# Altium schematic symbol library Diode.SchLib: 81 symbols
Pins are listed as number, name and electrical type; pins without a type are passive.

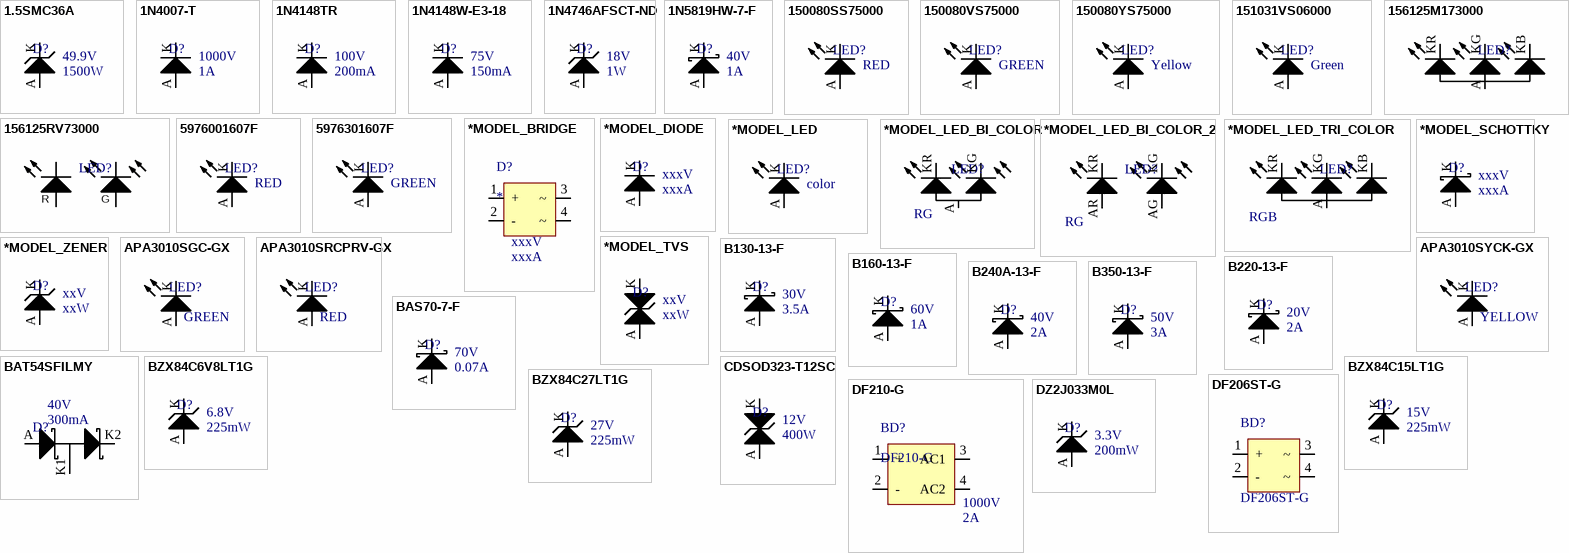
[diagram p0: symbols 1.5SMC36A to DZ2J033M0L]

## 1.5SMC36A
designator D?  value 49.9V  Power: 1500W  (hidden comment: 1.5SMC36A)
TVS DIODE 30.8VWM 49.9VC DO214AB; Manufacturer: Bourns Inc.; Mount Type: SMD; Category: TVS; Supplier 1: Digi-Key; Supplier Part Number 1: 1.5SMC36ABBCT-ND
footprint DO-214AB SMC
pins: A, K

## 1N4007-T
designator D?  value 1A  Voltage: 1000V  (hidden comment: 1N4007-T)
DIODE GEN PURP 1KV 1A DO41; Manufacturer: Diodes Incorporated; Mount Type: PTH; Category: Rectifier; Supplier 1: Farnell; Supplier 2: Digi-Key; Supplier 3: Mouser; Supplier 4: Newark; Supplier Part Number 1: 1843698; Supplier Part Number 2: 1N4007DICT-ND; Supplier Part Number 3: 750-1N4007T-G; Supplier Part Number 4: 12T2304
footprint DO-204AL
pins: A, K

## 1N4148TR
designator D?  value 200mA  Voltage: 100V  (hidden comment: 1N4148TR)
DIODE GEN PURP 100V 200MA DO35; Manufacturer: Fairchild Semiconductor; Mount Type: PTH; Category: Rectifier; Supplier 1: Farnell; Supplier 2: Newark; Supplier 3: Mouser; Supplier 4: Digi-Key; Supplier Part Number 1: 1782479; Supplier Part Number 2: 83C2425; Supplier Part Number 3: 512-1N4148; Supplier Part Number 4: 1N4148VSCT-ND
footprint DO-204AL
pins: A, K

## 1N4148W-E3-18
designator D?  value 150mA  Voltage: 75V  (hidden comment: 1N4148W-E3-18)
DIODE GEN PURP 75V 150MA SOD123; Manufacturer: Vishay Semiconductor Diodes Division; Mount Type: SMD; Category: Rectifier; Supplier 1: Newark; Supplier 2: Digi-Key; Supplier 3: Mouser; Supplier 4: Farnell; Supplier Part Number 1: 43X2686; Supplier Part Number 2: 1N4148W-E3-18CT-ND; Supplier Part Number 3: 78-1N4148W-E3-08; Supplier Part Number 4: 2377282
footprint SOD-123
pins: A, K

## 1N4746AFSCT-ND
designator D?  value 18V  Power: 1W  (hidden comment: 1N4746AFSCT-ND)
DIODE ZENER 18V 1W DO41; Manufacturer: Fairchild Semiconductor; Mount Type: PTH; Category: Zener; Supplier 1: Digi-Key; Supplier 2: Mouser; Supplier 3: Farnell; Supplier Part Number 1: 1N4746AFSCT-ND; Supplier Part Number 2: 512-1N4746ATR; Supplier Part Number 3: 2453733
footprint DO-204AL - ZENER
pins: A, K

## 1N5819HW-7-F
designator D?  value 1A  Voltage: 40V  (hidden comment: 1N5819HW-7-F)
DIODE SCHOTTKY 40V 1A SOD123; Manufacturer: Diodes Incorporated; Mount Type: SMD; Category: Schottky; Supplier 1: Digi-Key; Supplier 2: Mouser; Supplier 3: Farnell; Supplier 4: Newark; Supplier Part Number 1: 1N5819HW-FDICT-ND; Supplier Part Number 2: 621-1N5819HW-F; Supplier Part Number 3: 1773475; Supplier Part Number 4: 51R7874
footprint SOD-123
pins: A, K

## 150080SS75000
designator LED?  value RED  (hidden comment: 150080SS75000)
LED RED CLEAR 0805 SMD; Manufacturer: Wurth Electronics Inc.; Voltage: 1.9V; Mount Type: SMD; Supplier 1: Farnell; Supplier Part Number 1: 2322078; Supplier 2: Digi-Key; Supplier Part Number 2: 732-4985-6-ND
footprint L0805 RED (LED RED CLEAR 0805 SMD)
pins: A, K

## 150080VS75000
designator LED?  value GREEN  (hidden comment: 150080VS75000)
LED GREEN CLEAR 0805 SMD; Manufacturer: Wurth Electronics Inc.; Voltage: 2V; Mount Type: SMD; Supplier 1: Digi-Key; Supplier Part Number 1: 732-4986-1-ND; Supplier 2: Farnell; Supplier Part Number 2: 2322081
footprint L0805 GREEN
pins: A, K

## 150080YS75000
designator LED?  value Yellow  (hidden comment: 150080YS75000)
LED YELLOW CLEAR 0805 SMD; Manufacturer: Wurth Electronics Inc.; Voltage: 2V; Mount Type: SMD; Supplier 1: Newark; Supplier Part Number 1: 95W3804; Supplier 2: Digi-Key; Supplier Part Number 2: 732-4987-2-ND; Supplier 3: Farnell; Supplier Part Number 3: 2322082; Supplier 4: Digi-Key; Supplier Part Number 4: 732-4987-1-ND; Supplier 5: Digi-Key; Supplier Part Number 5: 732-4987-6-ND
footprint L0805 YELLOW
pins: A, K

## 151031VS06000
designator LED?  value Green  (hidden comment: 151031VS06000)
LED GRN DIFF 3MM ROUND T/H; Manufacturer: Wurth Electronics Inc.; Voltage: 2.2V; Mount Type: Through Hole; Supplier 1: Newark; Supplier Part Number 1: 95W3825; Supplier 2: Farnell; Supplier Part Number 2: 2322130; Supplier 3: Digi-Key; Supplier Part Number 3: 732-5008-ND
footprint 151031VS06000
pins: A, K

## 156125M173000
designator LED?  (value not drawn)
LED RGB CLEAR SMD; Manufacturer: Wurth Electronics Inc.; Voltage: 2V/3.3V/3.3V; Mount Type: SMD; Value: RGB; Supplier 1: Farnell; Supplier Part Number 1: 2765007; Supplier 2: Digi-Key; Supplier Part Number 2: 732-11426-1-ND; Supplier 3: Newark; Supplier Part Number 3: 22AC3296
footprint L1206 RGB ROUND REVERSE
pins: A, KB, KG, KR

## 156125RV73000
designator LED?  (value not drawn)
Description; Manufacturer: Wurth Electronics Inc.; Voltage: 2.1V/2V; Value: RG; Mount Type: SMD; Supplier 1: Newark; Supplier Part Number 1: 22AC3299; Supplier 2: Farnell; Supplier Part Number 2: 2765010; Supplier 3: Digi-Key; Supplier Part Number 3: 732-11429-1-ND
footprint L1206 BICOLOR ROUND
pins: 1 KG, 2 KR, 3 AR, 4 AG
text: R; G

## 5976001607F
designator LED?  value RED  (hidden comment: 5976001607F)
LED RED CLEAR 1206 SMD; Manufacturer: Dialight; Voltage: 2V; Mount Type: SMD; Supplier 1: Newark; Supplier Part Number 1: 06P3488; Supplier 2: Digi-Key; Supplier Part Number 2: 350-2312-1-ND; Supplier 3: Farnell; Supplier Part Number 3: 1760712
footprint L1206 RED ROUND REVERSE
pins: A, K

## 5976301607F
designator LED?  value GREEN  (hidden comment: 5976301607F)
LED GREEN CLEAR 1206 SMD; Manufacturer: Dialight; Voltage: 3.3V; Mount Type: SMD; Supplier 1: Digi-Key; Supplier Part Number 1: 350-2310-1-ND; Supplier 2: Arrow; Supplier Part Number 2: jDo53zdUazVR209LoJPoSj7ff4RV9Nr14zgbARHC_hE; Supplier 3: Newark; Supplier Part Number 3: 06P3497
footprint L1206 GREEN ROUND REVERSE
pins: A, K

## *MODEL_BRIDGE
designator D?  value xxxA  Voltage: xxxV
Description; Category: *; Manufacturer: *; Mount Type: *
pins: 1 + , 2 -, 3 ~, 4 ~

## *MODEL_DIODE
designator D?, comment value xxxA  Voltage: xxxV  (hidden comment: Part Number)
Description; Mount Type: *; Manufacturer: *; Category: Rectifier
pins: A, K

## *MODEL_LED
designator LED?, comment value color  (hidden comment: Part Number)
Description; Voltage: xxV; Mount Type: *; Manufacturer: *; Category: LED
pins: A, K

## *MODEL_LED_BI_COLOR
designator LED?, comment value RG  (hidden comment: Part Number)
Description; Voltage: xxV/yyV; Mount Type: *; Manufacturer: *; Category: LED
pins: A, KG, KR

## *MODEL_LED_BI_COLOR_2
designator LED?, comment value RG  (hidden comment: Part Number)
Description; Voltage: xxV/yyV; Mount Type: *; Manufacturer: *; Category: LED
pins: AG, AR, KG, KR

## *MODEL_LED_TRI_COLOR
designator LED?, comment value RGB  (hidden comment: Part Number)
Description; Voltage: xxV/yyV/zzV; Mount Type: *; Manufacturer: *; Category: LED
pins: A, KB, KG, KR

## *MODEL_SCHOTTKY
designator D?, comment value xxxA  Voltage: xxxV  (hidden comment: Part Number)
Description; Mount Type: *; Manufacturer: *; Category: Schottky
pins: A, K

## *MODEL_TVS
designator D?, comment value xxV  Power: xxW  (hidden comment: Part Number)
Description; Mount Type: *; Manufacturer: *; Category: TVS
pins: A, K

## *MODEL_ZENER
designator D?, comment value xxV  Power: xxW  (hidden comment: Part Number)
Description; Mount Type: *; Manufacturer: *; Category: Zener
pins: A, K

## APA3010SGC-GX
designator LED?  value GREEN  (hidden comment: APA3010SGC-GX)
Green 568nm LED Indication Discrete 2.2V Clear Lens 2-SMD, No Lead; Manufacturer: Kingbright; Mount Type: SMD; Voltage: 2.2V; Supplier 1: Digi-Key; Supplier 2: Newark; Supplier Part Number 1: 754-1586-1-ND; Supplier Part Number 2: 92F3652
footprint L3010 GREEN
pins: A, K

## APA3010SRCPRV-GX
designator LED?  value RED  (hidden comment: APA3010SRCPRV-GX)
Red 640nm LED Indication Discrete 1.85V Clear Lens 2-SMD, No Lead; Manufacturer: Kingbright; Mount Type: SMD; Voltage: 1.85V; Supplier 1: Digi-Key; Supplier 2: Newark; Supplier Part Number 1: 754-1577-1-ND; Supplier Part Number 2: 93K6500
footprint L3010 RED
pins: A, K

## APA3010SYCK-GX
designator LED?  value YELLOW  (hidden comment: APA3010SYCK-GX)
Yellow 590nm LED Indication Discrete 2V Clear Lens 2-SMD, No Lead; Manufacturer: Kingbright; Mount Type: SMD; Voltage: 2V; Supplier 1: Digi-Key; Supplier 2: Farnell; Supplier Part Number 1: 754-1585-1-ND; Supplier Part Number 2: 3229579
footprint L3010 YELLOW
pins: A, K

## B130-13-F
designator D?  value 3.5A  Voltage: 30V  (hidden comment: B130-13-F)
DIODE SCHOTTKY 30V 1A SMA; Manufacturer: Diodes Inc.; Mount Type: SMD; Category: Schottky; Supplier 1: Digi-Key; Supplier 2: Mouser; Supplier 3: Arrow; Supplier 4: Farnell; Supplier Part Number 1: B130-FDICT-ND; Supplier Part Number 2: 621-B130-F; Supplier Part Number 3: 41507697S7459205N2867; Supplier Part Number 4: 1843713
footprint DO-214AC SMA (DO-214-AC/SMA; 2 C-Bend Leads; Body 5.3 x 2.6 mm, inc. leads (LxW))
pins: A, K

## B160-13-F
designator D?  value 1A  Voltage: 60V  (hidden comment: B160-13-F)
DIODE SCHOTTKY 60V 1A SMA; Manufacturer: Diodes Incorporated; Mount Type: SMD; Category: Schottky; Supplier 1: Avnet; Supplier Part Number 1: B160-13-F/BKN; Supplier 2: Farnell; Supplier Part Number 2: 1843674RL; Supplier 3: Digi-Key; Supplier Part Number 3: B160-FDICT-ND; Supplier 4: Newark; Supplier Part Number 4: 12T1455
footprint DO-214AC SMA (DO-214-AC/SMA; 2 C-Bend Leads; Body 5.3 x 2.6 mm, inc. leads (LxW))
pins: A, K

## B220-13-F
designator D?  value 2A  Voltage: 20V  (hidden comment: B220-13-F)
DIODE SCHOTTKY 20V 2A SMB; Manufacturer: Diodes Incorporated; Mount Type: SMD; Category: Schottky; Supplier 1: Farnell; Supplier Part Number 1: 1843749; Supplier 2: Digi-Key; Supplier Part Number 2: B220-FDICT-ND; Supplier 3: Mouser; Supplier Part Number 3: 621-B220-F
footprint DO-214AA SMB
pins: A, K

## B240A-13-F
designator D?  value 2A  Voltage: 40V  (hidden comment: B240A-13-F)
DIODE SCHOTTKY 40V 2A SMA; Manufacturer: Diodes Incorporated; Mount Type: SMD; Category: Schottky; Supplier 1: Newark; Supplier 2: Digi-Key; Supplier 3: Farnell; Supplier 4: Mouser; Supplier Part Number 1: 12T1461; Supplier Part Number 2: B240A-FDICT-ND; Supplier Part Number 3: 1843669; Supplier Part Number 4: 621-B240A-F
footprint DO-214AC SMA (DO-214-AC/SMA; 2 C-Bend Leads; Body 5.3 x 2.6 mm, inc. leads (LxW))
pins: A, K

## B350-13-F
designator D?  value 3A  Voltage: 50V  (hidden comment: B350-13-F)
DIODE SCHOTTKY 50V 3A SMC; Manufacturer: Diodes Incorporated; Mount Type: SMD; Category: Schottky; Supplier 1: Avnet; Supplier Part Number 1: B350-13-F/BKN; Supplier 2: Digi-Key; Supplier Part Number 2: B350-FDICT-ND
footprint DO-214AB SMC
pins: A, K

## BAS70-7-F
designator D?  value 0.07A  Voltage: 70V  (hidden comment: BAS70-7-F)
DIODE SCHOTTKY 70V 0.07A SOT23-3; Manufacturer: Diodes Inc; Mount Type: SMD; Category: Schottky; Supplier 1: Farnell; Supplier 2: Mouser; Supplier 3: Digi-Key; Supplier 4: Newark; Supplier Part Number 1: 1902410; Supplier Part Number 2: 621-BAS70-F; Supplier Part Number 3: BAS70-FDICT-ND; Supplier Part Number 4: 65W8451
footprint SOT-23; pin to pad A>1 K>3
pins: A, K

## BAT54SFILMY
designator D?  value 300mA  Voltage: 40V  (hidden comment: BAT54SFILMY)
DIODE SCHOTTKY 40V 300MA SOT23; Manufacturer: STMicroelectronics; Mount Type: SMD; Category: Schottky; Supplier 1: Mouser; Supplier 2: Digi-Key; Supplier Part Number 1: 511-BAT54SFILMY; Supplier Part Number 2: 497-12132-1-ND
footprint SOT-23; pin to pad A>1 K1>3 K2>2
pins: A, K1, K2

## BZX84C6V8LT1G
designator D?  value 6.8V  Power: 225mW  (hidden comment: BZX84C6V8LT1G)
DIODE ZENER 6.8V 225MW SOT23-3; Manufacturer: ON Semiconductor; Mount Type: SMD; Category: Zener; Supplier 1: Digi-Key; Supplier Part Number 1: BZX84C6V8LT1GOSCT-ND
footprint SOT-23; pin to pad A>1 K>3
pins: A, K

## BZX84C15LT1G
designator D?  value 15V  Power: 225mW  (hidden comment: BZX84C15LT1G)
DIODE ZENER 15V 225MW SOT23-3; Manufacturer: ON Semiconductor; Mount Type: SMD; Category: Zener; Supplier 1: Digi-Key; Supplier Part Number 1: BZX84C15LT1GOSCT-ND
footprint SOT-23; pin to pad A>1 K>3
pins: A, K

## BZX84C27LT1G
designator D?  value 27V  Power: 225mW  (hidden comment: BZX84C27LT1G)
DIODE ZENER 27V 225MW SOT23-3; Manufacturer: ON Semiconductor; Mount Type: SMD; Category: Zener; Supplier 1: Digi-Key; Supplier Part Number 1: BZX84C27LT1GOSCT-ND
footprint SOT-23; pin to pad A>1 K>3
pins: A, K

## CDSOD323-T12SC
designator D?  value 12V  Power: 400W  (hidden comment: CDSOD323-T12SC)
TVS DIODE 12VWM 29.5VC SOD323; Manufacturer: Bourns Inc.; Mount Type: SMD; Category: TVS; Supplier 1: Newark; Supplier Part Number 1: 05R6894; Supplier 2: Avnet; Supplier Part Number 2: CDSOD323-T12SC; Supplier 3: Digi-Key; Supplier Part Number 3: CDSOD323-T12SCCT-ND; Supplier 4: Farnell; Supplier Part Number 4: 1824865
footprint SOD-323F
simulation model CDSOD323-T12SC (Model Description)
pins: A, K

## DF206ST-G
designator BD?
BRIDGE RECTIFIER 600V 2A DFS; Manufacturer: Comchip Technology; Value: 3A; Voltage: 1000V; Category: Rectifier; Mount Type: SMD; Supplier 1: Mouser; Supplier 2: Newark; Supplier 3: Digi-Key; Supplier Part Number 1: *; Supplier Part Number 2: *; Supplier 4: Digi-Key; Supplier Part Number 4: 641-1425-2-ND; Supplier Part Number 3: DF206ST-G
footprint Bridge_SMD_1
pins: 1 + , 2 -, 3 ~, 4 ~

## DF210-G
designator BD?  value 2A  Voltage: 1000V
RECT BRIDGE GPP 1000V 2A DF; Manufacturer: Comchip Technology; Category: Rectifier; Mount Type: PTH; Supplier 1: Mouser; Supplier 2: Digi-Key; Supplier Part Number 1: 750-DF210-G; Supplier Part Number 2: 641-1343-5-ND
footprint Bridge_PTH_1 (DIP, 8-Pin, Row Spacing 7.62 mm, Pitch 2.54 mm)
pins: 1 + , 2 -, 3 AC1, 4 AC2

## DZ2J033M0L
designator D?  value 3.3V  Power: 200mW  (hidden comment: DZ2J033M0L)
DIODE ZENER 3.3V 200MW SMINI2; Manufacturer: Panasonic Electronic Components; Mount Type: SMD; Category: Zener; Supplier 1: Mouser; Supplier Part Number 1: 667-DZ2J033M0L; Supplier 2: Newark; Supplier Part Number 2: 56W3769; Supplier 3: Digi-Key; Supplier Part Number 3: DZ2J033M0LCT-ND; Supplier 4: Farnell; Supplier Part Number 4: 2285293
footprint SOD-323F
pins: A, K

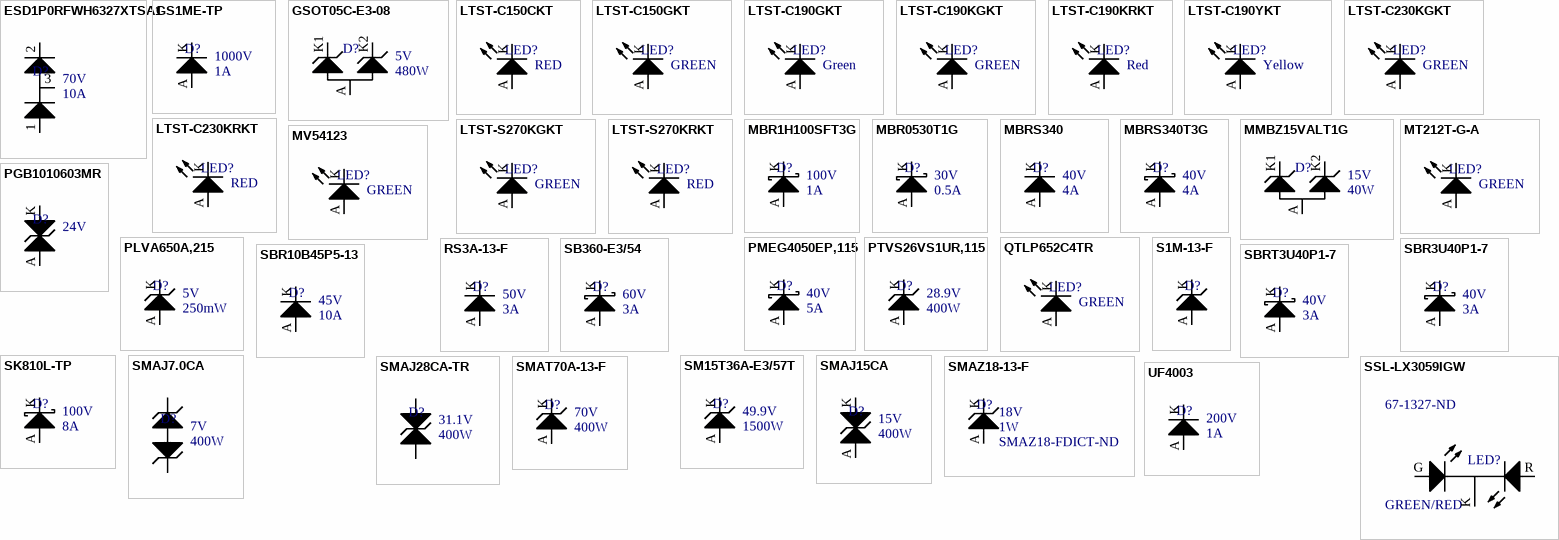
[diagram p1: symbols ESD1P0RFWH6327XTSA1 to UF4003]

## ESD1P0RFWH6327XTSA1
designator D?  value 10A  Voltage: 70V  (hidden comment: ESD1P0RFWH6327XTSA1)
TVS DIODE 70VWM 15VC SOT323; Manufacturer: Infineon Technologies; Mount Type: SMD; Category: Steering (Rail to Rail); Supplier 1: Avnet; Supplier Part Number 1: ESD1P0RFWH6327XTSA1; Supplier 2: Digi-Key; Supplier Part Number 2: ESD1P0RFWH6327XTSA1CT-ND
footprint SC-70-3 - SOT323
pins: 1 A, 2 K, 3 K

## GS1ME-TP
designator D?  value 1A  Voltage: 1000V  (hidden comment: GS1ME-TP)
DIODE GEN PURP 1KV 1A DO214AC; Manufacturer: Micro Commercial Co; Mount Type: SMD; Category: Rectifier; Supplier 1: Digi-Key; Supplier Part Number 1: GS1ME-TPMSCT-ND
footprint DO-214AC SMA (DO-214-AC/SMA; 2 C-Bend Leads; Body 5.3 x 2.6 mm, inc. leads (LxW))
pins: A, K

## GSOT05C-E3-08
designator D?  value 5V  Power: 480W  (hidden comment: GSOT05C-E3-08)
DIODE ESD 2LINE 5V SOT23; Manufacturer: Vishay Semiconductor Diodes Division; Mount Type: SMD; Category: Zener; Supplier 1: Digi-Key; Supplier 2: Mouser; Supplier Part Number 1: GSOT05C-E3-08CT-ND; Supplier Part Number 2: 78-GSOT05C-E3-08
footprint SOT-23; pin to pad A>3 K1>1 K2>2
pins: A, K1, K2

## LTST-C150CKT
designator LED?  value RED  (hidden comment: LTST-C150CKT)
LED RED CLEAR 1206 SMD; Manufacturer: Lite-On Inc; Voltage: 1.8V; Mount Type: SMD; Supplier 1: Mouser; Supplier 2: Newark; Supplier 3: Digi-Key; Supplier Part Number 1: 859-LTST-C150CKT; Supplier Part Number 2: 09J9557; Supplier Part Number 3: 160-1167-1-ND
footprint L1206 RED
pins: A, K

## LTST-C150GKT
designator LED?  value GREEN  (hidden comment: LTST-C150GKT)
LED GREEN CLEAR 1206 SMD; Manufacturer: Lite-On Inc; Voltage: 2.1V; Mount Type: SMD; Supplier 1: Mouser; Supplier 2: Newark; Supplier 3: Digi-Key; Supplier Part Number 1: 859-LTST-C150GKT; Supplier Part Number 2: 40K0120; Supplier Part Number 3: 160-1169-1-ND
footprint L1206 GREEN
pins: A, K

## LTST-C190GKT
designator LED?  value Green  (hidden comment: LTST-C190GKT)
LED GREEN CLEAR 0603 SMD; Manufacturer: Lite-On Inc.; Voltage: 2.1V; Mount Type: SMD; Category: LED
footprint L0603 GREEN (LED GREEN CLEAR 0603 SMD)
pins: A, K

## LTST-C190KGKT
designator LED?  value GREEN  (hidden comment: LTST-C190KGKT)
LED GREEN CLEAR 0603 SMD; Manufacturer: Lite-On Inc.; Voltage: 2V; Mount Type: SMD; Supplier 1: Digikey; Supplier Part Number 1: 160-1183-1-ND; Supplier 2: Mouser; Supplier Part Number 2: 859-LTST-C190GKT; Supplier 3: Arrow; Supplier Part Number 3: LTST-C190GKT**MULT1
footprint L0603 GREEN (LED GREEN CLEAR 0603 SMD)
pins: A, K

## LTST-C190KRKT
designator LED?  value Red  (hidden comment: LTST-C190KRKT)
LED RED CLEAR 0603 SMD; Manufacturer: Lite-On Inc.; Voltage: 2V; Mount Type: SMD; Category: LED
footprint L0603 RED (LED RED CLEAR 0603 SMD)
pins: A, K

## LTST-C190YKT
designator LED?  value Yellow  (hidden comment: LTST-C190YKT)
LED YELLOW CLEAR CHIP SMD; Manufacturer: Lite-On Inc.; Voltage: 2.1V; Mount Type: SMD; Category: LED
footprint L0603 YELLOW (LED YELLOW CLEAR 0603 SMD)
pins: A, K

## LTST-C230KGKT
designator LED?  value GREEN  (hidden comment: LTST-C230KGKT)
LED GREEN CLEAR 1206 REV MT SMD; Manufacturer: Lite-On Inc; Voltage: 2V; Mount Type: SMD; Supplier 1: Mouser; Supplier 2: Newark; Supplier 3: Digi-Key; Supplier Part Number 1: 859-LTST-C230KGKT; Supplier Part Number 2: 45K1224; Supplier Part Number 3: 160-1456-1-ND
footprint L1206 GREEN REVERSE
pins: A, K

## LTST-C230KRKT
designator LED?  value RED  (hidden comment: LTST-C230KRKT)
LED SUPR RED CLR 1206 REV MT SMD; Manufacturer: Lite-On Inc; Voltage: 2V; Mount Type: SMD; Supplier 1: Digi-Key; Supplier 2: Mouser; Supplier 3: Newark; Supplier Part Number 1: 160-1457-1-ND; Supplier Part Number 2: 859-LTST-C230KRKT; Supplier Part Number 3: 58K2307
footprint L1206 RED REVERSE
pins: A, K

## LTST-S270KGKT
designator LED?  value GREEN  (hidden comment: LTST-S270KGKT)
LED GREEN CLEAR 0603 R/A SMD; Manufacturer: Lite-On Inc.; Voltage: 2V; Mount Type: SMD; Supplier 1: Digi-Key; Supplier Part Number 1: 160-1478-1-ND; Supplier 2: Arrow; Supplier Part Number 2: DakXefaYPCDIGEkrktmyNISA3TtKifpK_A6EZjERB9U
footprint L0603 R/A GREEN (LED GREEN CLEAR 0603 R/A SMD)
pins: A, K

## LTST-S270KRKT
designator LED?  value RED  (hidden comment: LTST-S270KRKT)
LED RED CLEAR 0603 R/A SMD; Manufacturer: Lite-On Inc.; Voltage: 2V; Mount Type: SMD; Supplier 1: Arrow; Supplier Part Number 1: DakXefaYPCDIGEkrktmyNKdb-uTdGSwSvtvKEcv4UrY; Supplier 2: Digi-Key; Supplier Part Number 2: 160-1479-1-ND
footprint L0603 R/A RED (LED RED CLEAR 0603 R/A SMD)
pins: A, K

## MBR1H100SFT3G
designator D?  value 1A  Voltage: 100V  (hidden comment: MBR1H100SFT3G)
DIODE SCHOTTKY 100V 1A SOD123FL; Manufacturer: ON Semiconductor; Mount Type: SMD; Category: Schottky; Supplier 1: Farnell; Supplier Part Number 1: 2533229; Supplier 2: Digi-Key; Supplier Part Number 2: MBR1H100SFT3GOSCT-ND; Supplier 3: Newark; Supplier Part Number 3: 81Y6504; Supplier 4: Avnet; Supplier Part Number 4: MBR1H100SFT3G
footprint SOD-123W
pins: A, K

## MBR0530T1G
designator D?  value 0.5A  Voltage: 30V  (hidden comment: MBR0530T1G)
DIODE SCHOTTKY 30V 0.5A SOD123; Manufacturer: ON Semiconductor; Mount Type: SMD; Category: Schottky; Supplier 1: Digi-Key; Supplier 2: Newark; Supplier 3: Allied; Supplier 4: Mouser; Supplier 5: Farnell; Supplier Part Number 1: MBR0530T1GOSCT-ND; Supplier Part Number 2: 48K7499; Supplier Part Number 3: 70099496; Supplier Part Number 4: 863-MBR0530T1G; Supplier Part Number 5: 1431036
footprint SOD-123
pins: A, K

## MBRS340
designator D?  value 4A  Voltage: 40V  (hidden comment: MBRS340)
DIODE SCHOTTKY 40V 4A SMC; Manufacturer: Fairchild/ON Semiconductor; Mount Type: SMD; Category: Rectifier; Supplier 1: Digi-Key; Supplier Part Number 1: MBRS340FSCT-ND; Supplier 2: Farnell; Supplier Part Number 2: 9557377
footprint DO-214AB SMC
pins: A, K

## MBRS340T3G
designator D?  value 4A  Voltage: 40V  (hidden comment: MBRS340T3G)
DIODE SCHOTTKY 40V 4A SMC; Manufacturer: ON Semiconductor; Mount Type: SMD; Category: Schottky; Supplier 1: Mouser; Supplier 2: Allied; Supplier 3: Digi-Key; Supplier 4: Newark; Supplier 5: Farnell; Supplier Part Number 1: 863-MBRS340T3G; Supplier Part Number 2: 70099509; Supplier Part Number 3: MBRS340T3GOSCT-ND; Supplier Part Number 4: 90R9191; Supplier Part Number 5: 4085175
footprint DO-214AB SMC
pins: A, K

## MMBZ15VALT1G
designator D?  value 15V  Power: 40W  (hidden comment: MMBZ15VALT1G)
TVS ZENER DUAL CA 40W 15V SOT23; Manufacturer: ON Semiconductor; Mount Type: SMD; Category: Zener; Supplier 1: Mouser; Supplier 2: Allied; Supplier 3: Digi-Key; Supplier 4: Newark; Supplier 5: Farnell; Supplier Part Number 1: 863-MMBZ15VALT1G; Supplier Part Number 2: R1107507; Supplier Part Number 3: MMBZ15VALT1GOSCT-ND; Supplier Part Number 4: 84R0112; Supplier Part Number 5: 1829193
footprint SOT-23; pin to pad A>3 K1>1 K2>2
pins: A, K1, K2

## MT212T-G-A
designator LED?  value GREEN  (hidden comment: MT212T-G-A)
LED GRN 572NM DIFF 2X4MM; Manufacturer: Marktech Optoelectronics; Voltage: 2.1V; Mount Type: PTH; Supplier 1: Digi-Key; Supplier Part Number 1: 1125-1185-ND
footprint RECTANGULAR LED 2x4MM
pins: A, K

## MV54123
designator LED?  value GREEN  (hidden comment: MV54123)
LED SS HE GREEN DIFFUSED 2X5MM; Manufacturer: Everlight Electronics Co Ltd; Voltage: 2.2V; Mount Type: PTH; Supplier 1: Farnell; Supplier 2: Digi-Key; Supplier Part Number 1: 1003243; Supplier Part Number 2: 1080-1107-ND
footprint RECTANGULAR LED 2x5MM
pins: A, K

## PGB1010603MR
designator D?  value 24V  (hidden comment: PGB1010603MR)
TVS DIODE 24VWM 150VC 0603; Manufacturer: Littelfuse Inc.; Power: xxW; Mount Type: SMD; Category: TVS; Supplier 1: Mouser; Supplier Part Number 1: 576-PGB1010603MR; Supplier 2: Arrow; Supplier Part Number 2: PGB1010603MR; Supplier 3: Newark; Supplier Part Number 3: 42K3295; Supplier 4: Digikey; Supplier Part Number 4: F2594CT-ND; Supplier 5: Farnell; Supplier Part Number 5: 1757240
footprint D0603_MD (Chip Resistor, Body 1.6x0.8mm, IPC Medium Density)
pins: A, K

## PLVA650A,215
designator D?  value 5V  Power: 250mW  (hidden comment: PLVA650A,215)
DIODE ZENER 5V 250MW TO236AB; Manufacturer: NXP Semiconductors; Mount Type: SMD; Category: Zener; Supplier 1: Newark; Supplier 2: Mouser; Supplier 3: Digi-Key; Supplier Part Number 1: 70R7560; Supplier Part Number 2: 771-PLVA650A-T/R; Supplier Part Number 3: 568-6471-1-ND
footprint SOT-23; pin to pad A>1 K>3
pins: A, K

## PMEG4050EP,115
designator D?  value 5A  Voltage: 40V  (hidden comment: PMEG4050EP,115)
Diode Schottky 40V 5A Surface Mount SOD-128; Manufacturer: NXP Semiconductors; Mount Type: SMD; Category: Schottky; Supplier 1: Newark; Supplier Part Number 1: 05W7170; Supplier 2: Farnell; Supplier Part Number 2: 1829203; Supplier 3: Digi-Key; Supplier Part Number 3: 568-7408-1-ND
footprint SOD-128
pins: A, K

## PTVS26VS1UR,115
designator D?  value 28.9V  Power: 400W  (hidden comment: PTVS26VS1UR,115)
TVS UNI-DIR 26V 400W SOD123W; Manufacturer: NXP Semiconductors; Mount Type: SMD; Category: TVS; Supplier 1: Farnell; Supplier 2: Digi-Key; Supplier 3: Mouser; Supplier Part Number 1: 1829248; Supplier Part Number 2: 568-7453-1-ND; Supplier Part Number 3: 771-PTVS26VS1UR115
footprint SOD-123W
pins: A, K

## QTLP652C4TR
designator LED?  value GREEN  (hidden comment: QTLP652C4TR)
LED GREEN CLEAR 1206 SMD; Manufacturer: Everlight Electronics Co Ltd; Voltage: 2.1V; Mount Type: SMD; Supplier 1: Digi-Key; Supplier Part Number 1: 1080-1420-1-ND; Supplier 2: Avnet; Supplier Part Number 2: QTLP652C4TR
footprint L1206 GREEN ROUND REVERSE
pins: A, K

## RS3A-13-F
designator D?  value 3A  Voltage: 50V  (hidden comment: RS3A-13-F)
DIODE FAST RECOVERY 50V 3A SMC; Manufacturer: Diodes Incorporated; Mount Type: SMD; Category: Rectifier; Supplier 1: Mouser; Supplier 2: Digi-Key; Supplier Part Number 1: 621-RS3A-13-F; Supplier Part Number 2: RS3A-FDICT-ND
footprint DO-214AB SMC
pins: A, K

## S1M-13-F
designator D?  (value not drawn)
DIODE GEN PURP 1KV 1A SMA; Manufacturer: Diodes Incorporated; Part Number: S1M-13-F; Supplier 1: Farnell; Supplier Part Number 1: 1858603; Supplier 2: Digi-Key; Supplier Part Number 2: US1M-FDIDKR-ND; Supplier 3: Digi-Key; Supplier Part Number 3: RS1M-FDICT-ND; Supplier 4: Digi-Key; Supplier Part Number 4: RS1M-FDIDKR-ND; Supplier 5: Farnell; Supplier Part Number 5: 1773482; Supplier 6: Newark; Supplier Part Number 6: 23T9599
footprint S1M-13-F (DIODE GEN PURP 1KV 1A SMA)
pins: A, K

## SB360-E3/54
designator D?  value 3A  Voltage: 60V  (hidden comment: SB360-E3/54)
DIODE SCHOTTKY 60V 3A DO201AD; Manufacturer: Vishay Semiconductor Diodes Division; Mount Type: PTH; Category: Schottky; Supplier 1: Newark; Supplier 2: Farnell; Supplier 3: Digi-Key; Supplier Part Number 1: 05R5709; Supplier Part Number 2: 9550380; Supplier Part Number 3: SB360-E3/54GICT-ND
footprint DO-201AD
pins: A, K

## SBR3U40P1-7
designator D?  value 3A  Voltage: 40V  (hidden comment: SBR3U40P1-7)
DIODE SBR 40V 3A POWERDI123; Manufacturer: Diodes Incorporated; Mount Type: SMD; Category: Schottky; Supplier 1: Digi-Key; Supplier 2: Mouser; Supplier Part Number 1: SBR3U40P1DICT-ND; Supplier Part Number 2: 621-SBR3U40P1-7
footprint POWERDI-123
pins: A, K

## SBR10B45P5-13
designator D?  value 10A  Voltage: 45V  (hidden comment: SBR10B45P5-13)
DIODE SBR 45V 10A POWERDI5; Manufacturer: Diodes Incorporated; Mount Type: SMD; Category: Rectifier; Supplier 1: Digi-Key; Supplier Part Number 1: SBR10B45P5-13DICT-ND
footprint POWERDI-5
pins: A, K

## SBRT3U40P1-7
designator D?  value 3A  Voltage: 40V  (hidden comment: SBRT3U40P1-7)
DIODE SBR 40V 3A POWERDI123; Manufacturer: Diodes Incorporated; Mount Type: SMD; Category: Schottky; Supplier 1: Digi-Key; Supplier Part Number 1: SBRT3U40P1-7DICT-ND; Supplier 2: Avnet; Supplier Part Number 2: SBRT3U40P1-7
footprint POWERDI-123
pins: A, K

## SK810L-TP
designator D?  value 8A  Voltage: 100V  (hidden comment: SK810L-TP)
DIODE SCHOTTKY 100V 8A DO214AB; Manufacturer: Micro Commercial Co; Mount Type: SMD; Category: Schottky; Supplier 1: Mouser; Supplier 2: Newark; Supplier 3: Digi-Key; Supplier Part Number 1: N/A; Supplier Part Number 2: 69W3728; Supplier Part Number 3: SK810L-TPMSCT-ND
footprint DO-214AB SMC
pins: A, K

## SM15T36A-E3/57T
designator D?  value 49.9V  Power: 1500W  (hidden comment: SM15T36A-E3/57T)
TVS DIODE 30.8VWM 49.9VC SMC; Manufacturer: Vishay Semiconductor Diodes Division; Mount Type: SMD; Category: Schottky; Supplier 1: Digi-Key; Supplier Part Number 1: SM15T36A-E3/57TGICT-ND
footprint DO-214AB SMC
pins: A, K

## SMAJ7.0CA
designator D?  value 7V  Power: 400W  (hidden comment: SMAJ7.0CA)
DIODE TVS 7.0V 400W BI 5% SMD; Manufacturer: Bourns Inc.; Mount Type: SMD; Category: Zener; Supplier 1: Mouser; Supplier 2: Allied; Supplier 3: Digi-Key; Supplier 4: Newark; Supplier 5: Farnell; Supplier Part Number 1: 652-SMAJ7.0CA; Supplier Part Number 2: R1012530; Supplier Part Number 3: SMAJ7.0CABCT-ND; Supplier Part Number 4: 33R1042; Supplier Part Number 5: 1831412
footprint DO-214AC SMA (DO-214-AC/SMA; 2 C-Bend Leads; Body 5.3 x 2.6 mm, inc. leads (LxW))
pins: A, K

## SMAJ15CA
designator D?  value 15V  Power: 400W  (hidden comment: SMAJ15CA)
TVS DIODE 15VWM SMD; Manufacturer: Bourns Inc.; Mount Type: SMD; Category: TVS; Supplier 1: Mouser; Supplier 2: Digi-Key; Supplier 3: Newark; Supplier 4: Farnell; Supplier Part Number 1: 652-SMAJ15CA; Supplier Part Number 2: SMAJ15CABCT-ND; Supplier Part Number 3: 71J1959; Supplier Part Number 4: 1899446
footprint DO-214AC SMA (DO-214-AC/SMA; 2 C-Bend Leads; Body 5.3 x 2.6 mm, inc. leads (LxW))
pins: A, K

## SMAJ28CA-TR
designator D?  value 31.1V  Power: 400W  (hidden comment: SMAJ28CA-TR)
TVS DIODE 28VWM 59VC SMA; Manufacturer: STMicroelectronics; Mount Type: SMD; Category: TVS; Supplier 1: Farnell; Supplier 2: Digi-Key; Supplier 3: Newark; Supplier 4: Mouser; Supplier Part Number 1: 2252451; Supplier Part Number 2: 497-4620-1-ND; Supplier Part Number 3: 26M3111; Supplier Part Number 4: 511-SMAJ28CA-TR
footprint DO-214AC SMA (DO-214-AC/SMA; 2 C-Bend Leads; Body 5.3 x 2.6 mm, inc. leads (LxW))
pins: A, K

## SMAT70A-13-F
designator D?  value 70V  Power: 400W  (hidden comment: SMAT70A-13-F)
TVS DIODE 70VWM 100VC SMA; Manufacturer: Diodes Incorporated; Mount Type: SMD; Category: TVS; Supplier 1: Digi-Key; Supplier Part Number 1: SMAT70A-FDICT-ND
footprint DO-214AC SMA (DO-214-AC/SMA; 2 C-Bend Leads; Body 5.3 x 2.6 mm, inc. leads (LxW))
pins: A, K

## SMAZ18-13-F
designator D?  value 1W  Voltage: 18V  Supplier Part Number 4: SMAZ18-FDICT-ND  (hidden comment: SMAZ18-13-F)
DIODE ZENER 18V 1W SMA; Manufacturer: Diodes Incorporated; Category: Rectifier; Mount Type: SMD; Supplier 1: Mouser; Supplier 2: Newark; Supplier 3: Digi-key; Supplier 4: Digi-Key
footprint DO-214AC SMA (DO-214-AC/SMA; 2 C-Bend Leads; Body 5.3 x 2.6 mm, inc. leads (LxW))
pins: A, K

## SSL-LX3059IGW
designator LED?  value GREEN/RED  Supplier Part Number 3: 67-1327-ND  (hidden comment: SSL-LX3059IGW)
LED GRN/RED DIFF 3MM ROUND T/H; Manufacturer: Lumex Opto/Components Inc.; Voltage: 2.2V Green, 2V Red; Mount Type: Through Hole; Supplier 1: Newark; Supplier 2: Allied; Supplier 3: Digi-Key; Supplier Part Number 1: 09J9301; Supplier Part Number 2: 70127529
footprint SSL-LX3059IGW
pins: G, K, R

## UF4003
designator D?  value 1A  Voltage: 200V  (hidden comment: UF4003)
DIODE GEN PURP 200V 1A DO204AL; Manufacturer: Fairchild Semiconductor; Mount Type: PTH; Category: Rectifier; Supplier 1: Mouser; Supplier 2: Newark; Supplier 3: Farnell; Supplier 4: Digi-Key; Supplier Part Number 1: 821-UF4003; Supplier Part Number 2: 05R5921; Supplier Part Number 3: 4546143; Supplier Part Number 4: UF4003CT-ND
footprint DO-204AL
pins: A, K

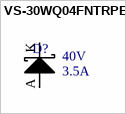
[diagram p2: symbol VS-30WQ04FNTRPBF]

## VS-30WQ04FNTRPBF
designator D?  value 3.5A  Voltage: 40V  (hidden comment: VS-30WQ04FNTRPBF)
DIODE SCHOTTKY 40V 3.5A DPAK; Manufacturer: Vishay Semiconductor Diodes Division; Mount Type: SMD; Category: Schottky; Supplier 1: Newark; Supplier 2: Farnell; Supplier 3: Mouser; Supplier 4: Digi-Key; Supplier Part Number 1: 26M7062; Supplier Part Number 2: 9101233; Supplier Part Number 3: 844-30WQ04FNTRPBF; Supplier Part Number 4: VS-30WQ04FNPBF-ND
footprint DPAK  TO-252AA; pin to pad A>1 A2>3 K>2
pins: A, A2, K